# EAGLE library part ATTINY85 (library CaliBeta-Microcontroladores)
Microcontrolador AVR de 8 bits 8KB FLASH 512B EEPROM 512 KB SRAM 6 General Purpose I/O pins 2-channels 8-bit PWM 4-channels 10-bit A/D Datasheet <https://ww1.microchip.com/downloads/en/DeviceDoc/Atmel-2586-AVR-8-bit-Microcontroller-ATtiny25-ATtiny45-ATtiny85_Datasheet.pdf>
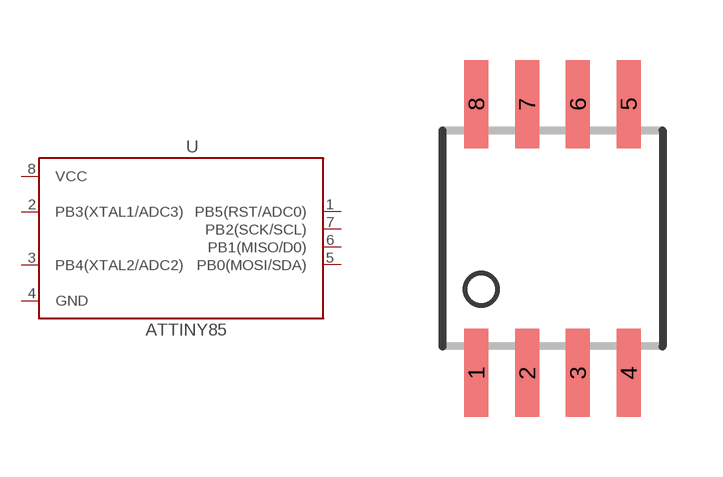
[diagram p1: symbol with the pads of EIAJ-8; footprint EIAJ-8]

Designator prefix U

## ATTINY85  [EIAJ-8]
1  PB5(RST/ADC0)
2  PB3(XTAL1/ADC3)
3  PB4(XTAL2/ADC2)
4  GND  pwr
5  PB0(MOSI/SDA)
6  PB1(MISO/D0)
7  PB2(SCK/SCL)
8  VCC  pwr

## Footprint EIAJ-8 (pad centres in mm)
smd 0.6 x 2.2: 1 -1.905,-3.362; 2 -0.635,-3.362; 3 0.635,-3.362; 4 1.905,-3.362; 5 1.905,3.362; 6 0.635,3.362; 7 -0.635,3.362; 8 -1.905,3.362